# Altium footprint library 电源1.PcbLib: 21 footprints (part 1 of 2)
Each footprint in its own frame and in the unit in brackets; x right, y up, seen from the top. Pads: shape width x height; smd on the part's side, far side on the other; paste and mask are expansions set on the pad; w line width, h text height; cw(c..) or ccw(c..) is an arc to the next point about the centre after c.
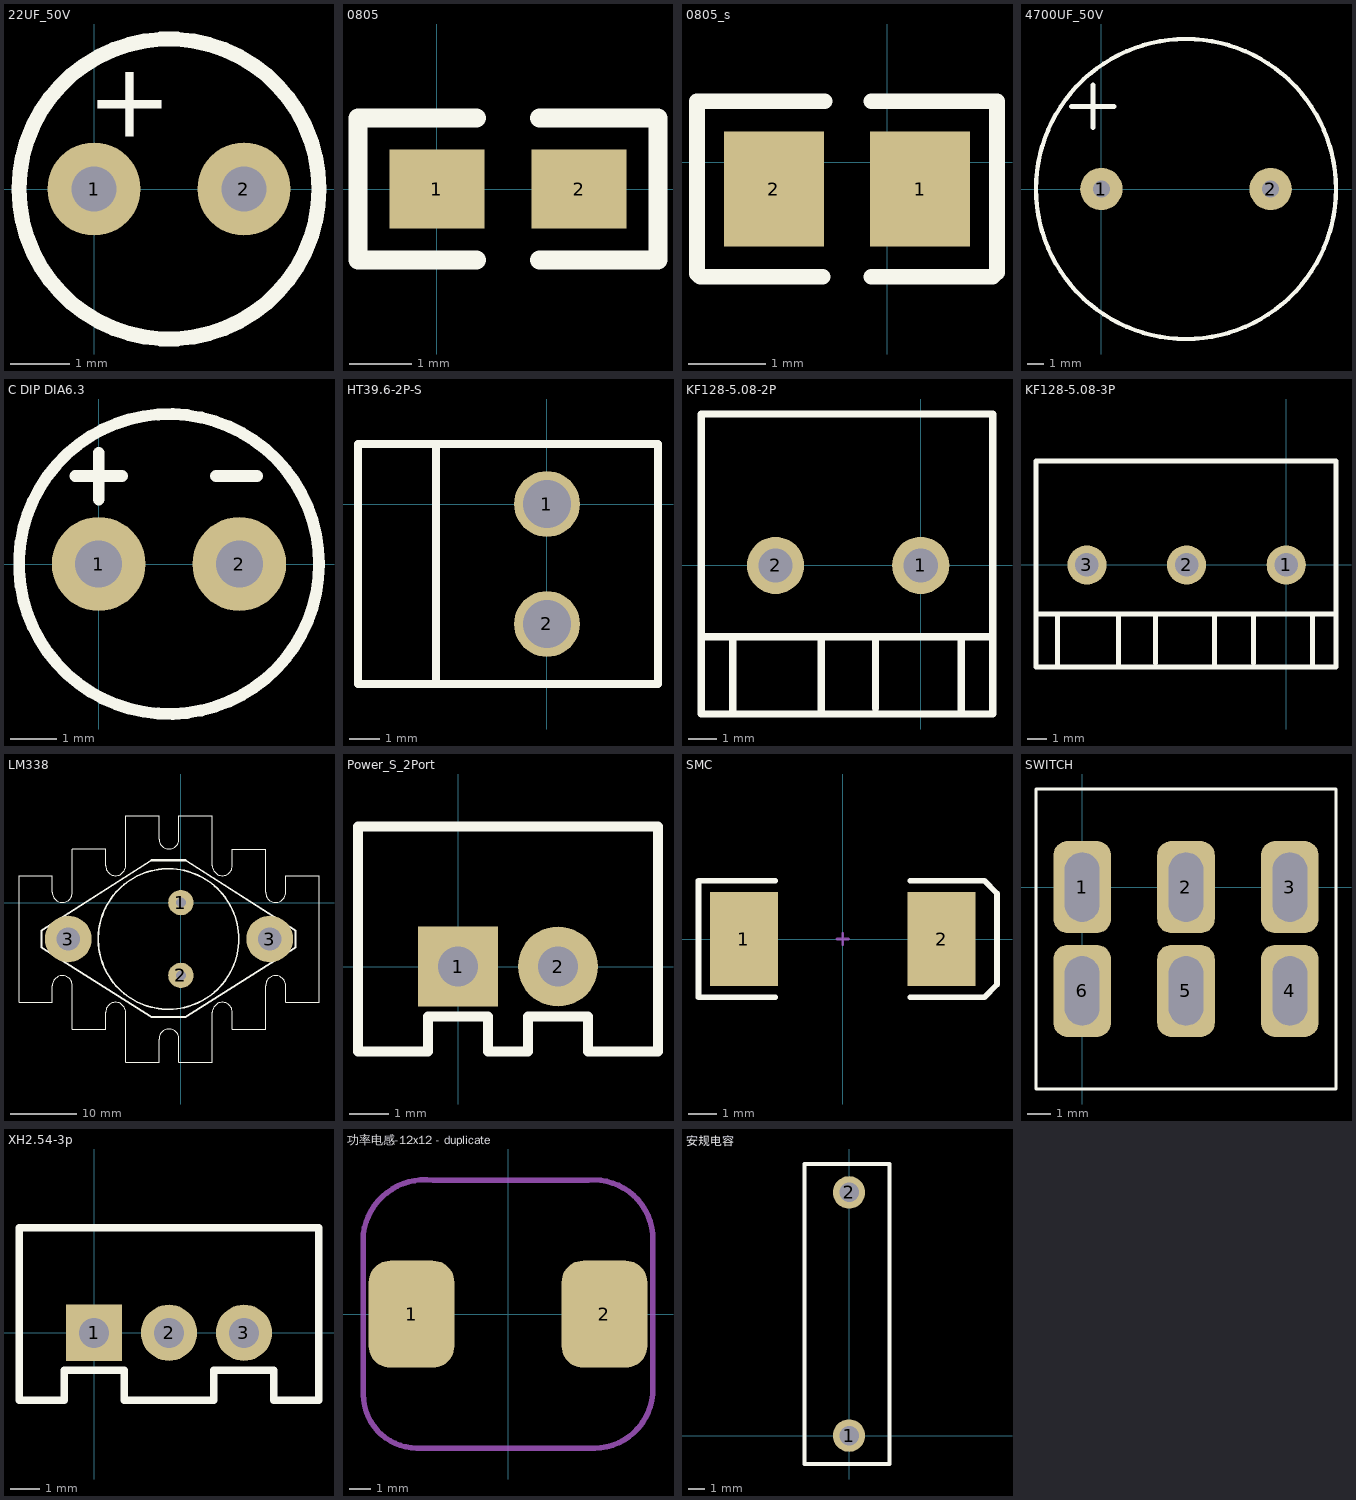
[diagram p0: the footprints below, top view; thin cyan lines are the x and y axes]

## 22UF_50V [mil]
pads (2):
  round 62 hole 30: 1(0,0) 2(100,0)
Top Overlay:
  circle w10: c50,0 r100
  text "+" at -5,35 h50
3D body "User Library-cap 5x11.STEP": height 433.07, standoff -748.03, extent -46.85,-100 150,96.85

## 0805 [mil]
pads (2):
  rect 60x50 smd: 1(0,0) 2(90,0)
Top Overlay:
  lines w12: 25,-45 -50,-45 -50,45 25,45 ; 65,-45 140,-45 140,45 65,45

## 0805_s [mm]
pads (2):
  rect 1.3x1.499 smd: 1(0.425,-0.35) 2(-1.475,-0.35)
Top Overlay:
  lines w0.203: -0.84,-1.493 -2.432,-1.493 -2.475,-1.45 -2.475,0.793 -0.818,0.793 ; -0.21,-1.493 1.368,-1.493 1.425,-1.436 1.425,0.793 -0.21,0.793

## 4700UF_50V [mil]
pads (2):
  round 100 hole 40: 1(0,0) 2(400,0)
Top Overlay:
  circle w10: c200,0 r354.33
  lines w12: -70,195 30,195 ; -20,145 -20,245
3D body "User Library-CE_R300_D720_H1600.STEP": height 1628.35, standoff -109.45, extent -159.84,-354.33 559.84,365.35

## C DIP DIA6.3 [mil]
pads (2):
  round 80 hole 40: 1(0,0) 2(120,0)
Top Overlay:
  circle w10: c60,0 r127.95
  lines w10: -20,75 20,75 ; 0,55 0,95 ; 100,75 135,75

## HT39.6-2P-S [mm]
pads (2):
  round 2.2 hole 1.6: 1(0,0) 2(0,-4)
Top Overlay:
  lines w0.254: -3.7,-6 3.7,-6 3.7,2 -3.7,2 ; -3.7,-6 -3.7,2 ; -3.7,-6 -6.3,-6 -6.3,2 -3.7,2

## KF128-5.08-2P [mm]
pads (2):
  round 2 hole 1.2: 1(0,0) 2(-5.08,0)
Top Overlay:
  lines w0.254: -7.68,-2.5 2.52,-2.5 ; -6.58,-5.2 -6.58,-2.5 ; -3.48,-5.2 -3.48,-2.5 ; -1.58,-5 -1.58,-2.5 ; 1.42,-5.1 1.42,-2.5 ; -7.68,-5.2 -7.68,5.3 2.52,5.3 2.52,-5.2 -7.68,-5.2
3D body: height 14.1, standoff 5, extent -7.68,-2.5 2.42,5.2
3D body: height 5, standoff 0, extent -7.58,-5.1 2.42,5.2

## KF128-5.08-3P [mm]
pads (3):
  round 2 hole 1.2: 1(0,0) 2(-5.08,0) 3(-10.16,0)
Top Overlay:
  lines w0.254: -12.76,-2.5 2.54,-2.5 ; -11.66,-5.2 -11.66,-2.5 ; -8.56,-5.2 -8.56,-2.5 ; -6.66,-5 -6.66,-2.5 ; -3.66,-5.1 -3.66,-2.5 ; -1.66,-5 -1.66,-2.5 ; 1.34,-5.1 1.34,-2.5 ; -12.76,-5.2 -12.76,5.3 2.54,5.3 2.54,-5.2 -12.76,-5.2
3D body: height 14.1, standoff 5, extent -12.66,-2.4 2.34,5.2
3D body: height 5, standoff 0, extent -12.66,-5.1 2.34,5.2

## LM338 [mm]
pads (4):
  round 3.81 hole 1.5: 1(0,0) 2(0,-10.922)
  round 7 hole 3.5: 3(-16.891,-5.461) 3(13.335,-5.461)
Top Overlay:
  circle w0.254: c13.335,-5.461 r2.413
  circle w0.254: c-16.891,-5.461 r2.413
  circle w0.254: c-1.854,-5.461 r10.541
  lines w0.127: -19.278,-14.961 -24.278,-14.961 -24.278,4.039 -19.279,4.039 -19.279,1.54 ; -19.277,-14.96 -19.277,-12.461 cw(c-17.778,-12.461) -16.279,-12.461 ; -19.277,1.539 ccw(c-17.778,1.539) -16.279,1.539 ; -16.279,8.04 -11.279,8.04 -11.279,5.54 ; -16.278,-12.462 -16.278,-18.961 -11.278,-18.961 ; -16.278,1.539 -16.278,8.039 ; -11.277,-18.96 -11.277,-16.461 cw(c-9.778,-16.461) -8.279,-16.461 ; -11.278,5.539 ccw(c-9.779,5.539) -8.279,5.539 -8.279,13.038 ; -8.278,-16.462 -8.278,-23.961 -3.278,-23.961 ; -8.278,13.039 -3.278,13.039 -3.278,9.539 ccw(c-1.779,9.539) -0.279,9.539 -0.279,13.039 ; -3.277,-23.96 -3.277,-20.461 cw(c-1.778,-20.461) -0.279,-20.461 -0.278,-23.961 4.722,-23.961 ; -0.279,13.04 4.721,13.04 4.721,5.54 ; 4.723,-23.96 4.723,-16.461 cw(c6.222,-16.461) 7.721,-16.461 ; 4.723,5.539 ccw(c6.222,5.539) 7.721,5.539 7.721,8.038 ; 7.722,-16.462 7.722,-18.961 12.722,-18.961 ; 7.722,8.039 12.722,8.039 12.722,1.54 ; 12.723,-18.96 12.723,-12.461 cw(c14.222,-12.461) 15.721,-12.461 15.721,-14.96 ; 12.723,1.539 ccw(c14.222,1.539) 15.721,1.539 15.721,4.038 ; 15.722,-14.961 20.722,-14.961 20.722,4.039 15.722,4.039
  lines w0.305: -20.904,-6.731 -20.904,-4.191 -4.394,6.35 0.686,6.35 17.196,-4.191 17.196,-6.731 0.686,-17.145 -4.394,-17.145 -20.904,-6.731
3D body "User Library-LM317_TO3.STEP": height 8.8, standoff -10.8, extent -21.254,-18.034 17.546,6.966

## Power_S_2Port [mil]
pads (2):
  rect 80x80 hole 40: 1(0,0)
  round 80 hole 40: 2(100,0)
Top Overlay:
  lines w10: -100,-85 -30,-85 -30,-50 30,-50 30,-85 70,-85 70,-50 130,-50 130,-85 200,-85 200,140 -100,140 -100,-85

## SMC [mm] "DO-214-AB/SMC; 2 C-Bend Leads; Body 7.9 x 5.9 mm, inc. leads (LxW)"
height 2.65
pads (2):
  rect 2.4x3.3 smd: 1(-3.475,0) 2(3.475,0)
Top Overlay:
  lines w0.2: -2.375,-2.05 -5.075,-2.05 -5.075,2.05 -2.375,2.05 ; 2.375,-2.05 4.975,-2.05 5.425,-1.6 5.425,1.6 4.975,2.055 ; 2.375,2.05 4.975,2.05
Mechanical 1:
  lines w0.1: -0.2,0 0.2,0 ; 0,-0.2 0,0.2

## SWITCH [mm]
pads (6):
  rrect50% 2.5x4 hole 1.5 slot 3 at 90 deg: 1(0,0) 2(4.5,0) 3(9,0) 4(9,-4.5) 5(4.5,-4.5) 6(0,-4.5)
Top Overlay:
  lines w0.127: -2,-8.75 11,-8.75 11,4.25 4.5,4.25 -2,4.25 -2,-2.25 -2,-8.75
3D body "SW3dPS-SW-113.STEP": height 30.58, standoff -3.96, extent -1.85,-8.181 10.85,3.63

## XH2.54-3p [mil]
pads (3):
  rect 75x75 hole 40: 1(0,0)
  round 75 hole 40: 2(100,0) 3(200,0)
Top Overlay:
  lines w10: -100,-90 -40,-90 -40,-50 40,-50 40,-90 160,-90 160,-50 240,-50 240,-90 300,-90 300,140 -100,140 -100,-90

## 功率电感-12x12 - duplicate [mm]
pads (2):
  rrect50% 4x5 smd: 1(-4.5,0) 2(4.5,0)
Mechanical 15:
  lines w0.254: -6.75,-3.75 ccw(c-4.25,-3.75) -4.25,-6.25 3.75,-6.25 ccw(c4,-3.5) 6.75,-3.75 6.75,3.75 ccw(c4,3.5) 3.75,6.25 -3.5,6.25 ccw(c-3.875,3.375) -6.75,3.75 -6.75,-3.75
3D body: height 8, standoff 0, extent -6.084,-6.149 6.215,6.15

## 固定过孔 [mm]
via 0,0 diameter 5 hole 3

## 安规电容 [mm]
pads (2):
  round 2 hole 1.2: 1(0,0) 2(0,15)
Top Overlay:
  lines w0.254: -2.75,-1.75 -2.75,16.75 2.5,16.75 2.5,-1.75 -2.75,-1.75
3D body: height 13, standoff 0, extent -2.75,-1.75 2.6,16.75